# EAGLE library part FXL6408 (library Eagle_CAD_parts)
I/O Expander 8 I²C 400kHz
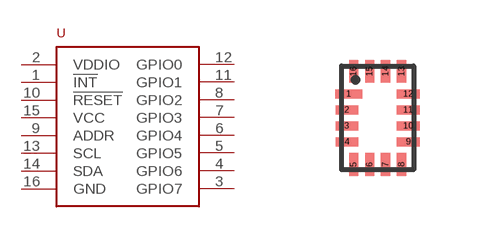
[diagram p55: symbol with the pads of 16-UMLP; footprint 16-UMLP]

Designator prefix U

## FXL6408_UMX (DIGIKEY_PART_NUMBER: FXL6408UMXCT-ND; MANUFACTURER_PART_NUMBER: FXL6408UMX)  [16-UMLP]
1  !INT
2  VDDIO
3  GPIO7
4  GPIO6
5  GPIO5
6  GPIO4
7  GPIO3
8  GPIO2
9  ADDR
10  !RESET
11  GPIO1
12  GPIO0
13  SCL
14  SDA
15  VCC
16  GND

## Footprint 16-UMLP (pad centres in mm)
smd 0.663 x 0.225: 1 -0.719,0.6
smd 0.563 x 0.225: 2 -0.768,0.2; 3 -0.768,-0.2; 4 -0.768,-0.6; 9 0.768,-0.6; 10 0.768,-0.2; 11 0.768,0.2; 12 0.768,0.6
smd 0.225 x 0.563: 5 -0.6,-1.169; 6 -0.2,-1.169; 7 0.2,-1.169; 8 0.6,-1.169; 13 0.6,1.169; 14 0.2,1.169; 15 -0.2,1.169; 16 -0.6,1.169